# EAGLE library part L6470 (library everykey)
ST fully integrated stepper controller and driver, 128-microstepping, 3A max per phase, SPI
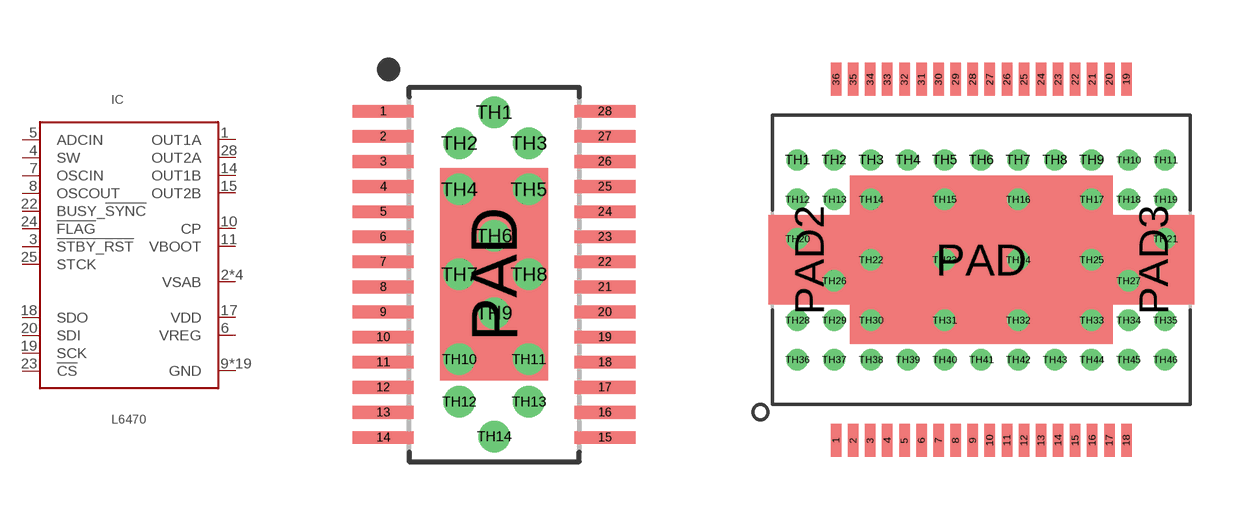
[diagram p50: symbol with the pads of HTSSOP28-0.65-EP-VIAS; footprints HTSSOP28-0.65-EP-VIAS, POWERSO36-EP-VIAS]

Designator prefix IC

## L6470HTSSOP  [HTSSOP28-0.65-EP-VIAS]
1  OUT1A
2  VSAB  pwr
3  !STBY_RST  in
4  SW  in
5  ADCIN  in
6  VREG  in
7  OSCIN  in
8  OSCOUT  out
9  GND  pwr
10  CP  out
11  VBOOT  pwr
12  VSAB  pwr
13  GND  pwr
14  OUT1B
15  OUT2B
16  VSAB  pwr
17  VDD  pwr
18  SDO  out
19  SCK  in
20  SDI  in
21  GND  pwr
22  BUSY_!SYNC  out
23  !CS  in
24  !FLAG  out
25  STCK  in
26  VSAB  pwr
27  GND  pwr
28  OUT2A
PAD  GND  pwr
TH1  GND  pwr
TH2  GND  pwr
TH3  GND  pwr
TH4  GND  pwr
TH5  GND  pwr
TH6  GND  pwr
TH7  GND  pwr
TH8  GND  pwr
TH9  GND  pwr
TH10  GND  pwr
TH11  GND  pwr
TH12  GND  pwr
TH13  GND  pwr
TH14  GND  pwr

## L6470POWERSO  [POWERSO36-EP-VIAS]
1  GND  pwr
2  OUT1A
3  OUT1A
4  VSAB  pwr
5  VSAB  pwr
6  !STBY_RST  in
7  SW  in
8  ADCIN  in
9  VREG  in
10  OSCIN  in
11  OSCOUT  out
12  GND  pwr
13  CP  out
14  VBOOT  pwr
15  VSAB  pwr
16  VSAB  pwr
17  OUT1B
18  OUT1B
19  GND  pwr
20  OUT2B
21  OUT2B
22  VSAB  pwr
23  VSAB  pwr
24  VDD  pwr
25  SDO  out
26  SCK  in
27  SDI  in
28  GND  pwr
29  BUSY_!SYNC  out
30  !CS  in
31  !FLAG  out
32  STCK  in
33  VSAB  pwr
34  VSAB  pwr
35  OUT2A
36  OUT2A
PAD  GND  pwr
PAD2  GND  pwr
PAD3  GND  pwr
TH1  GND  pwr
TH2  GND  pwr
TH3  GND  pwr
TH4  GND  pwr
TH5  GND  pwr
TH6  GND  pwr
TH7  GND  pwr
TH8  GND  pwr
TH9  GND  pwr
TH10  GND  pwr
TH11  GND  pwr
TH12  GND  pwr
TH13  GND  pwr
TH14  GND  pwr
TH15  GND  pwr
TH16  GND  pwr
TH17  GND  pwr
TH18  GND  pwr
TH19  GND  pwr
TH20  GND  pwr
TH21  GND  pwr
TH22  GND  pwr
TH23  GND  pwr
TH24  GND  pwr
TH25  GND  pwr
TH26  GND  pwr
TH27  GND  pwr
TH28  GND  pwr
TH29  GND  pwr
TH30  GND  pwr
TH31  GND  pwr
TH32  GND  pwr
TH33  GND  pwr
TH34  GND  pwr
TH35  GND  pwr
TH36  GND  pwr
TH37  GND  pwr
TH38  GND  pwr
TH39  GND  pwr
TH40  GND  pwr
TH41  GND  pwr
TH42  GND  pwr
TH43  GND  pwr
TH44  GND  pwr
TH45  GND  pwr
TH46  GND  pwr

## Footprint HTSSOP28-0.65-EP-VIAS (pad centres in mm)
HTSSOP28 package, 0.65mm pitch, with exposed pad (no thermals) and vias on pad. Recommended sizes, optimized for 12mil spacing (thick copper).
smd 1.58 x 0.33: 1 -2.87,4.225; 2 -2.87,3.575; 3 -2.87,2.925; 4 -2.87,2.275; 5 -2.87,1.625; 6 -2.87,0.975; 7 -2.87,0.325; 8 -2.87,-0.325; 9 -2.87,-0.975; 10 -2.87,-1.625; 11 -2.87,-2.275; 12 -2.87,-2.925; 13 -2.87,-3.575; 14 -2.87,-4.225; 15 2.87,-4.225; 16 2.87,-3.575; 17 2.87,-2.925; 18 2.87,-2.275; 19 2.87,-1.625; 20 2.87,-0.975; 21 2.87,-0.325; 22 2.87,0.325; 23 2.87,0.975; 24 2.87,1.625; 25 2.87,2.275; 26 2.87,2.925; 27 2.87,3.575; 28 2.87,4.225
smd 2.8 x 5.5: PAD 0,0
drill 0.305: TH1 0,4.2; TH2 -0.9,3.4; TH3 0.9,3.4; TH4 -0.9,2.2; TH5 0.9,2.2; TH6 0,1; TH7 -0.9,0; TH8 0.9,0; TH9 0,-1; TH10 -0.9,-2.2; TH11 0.9,-2.2; TH12 -0.9,-3.3; TH13 0.9,-3.3; TH14 0,-4.2

## Footprint POWERSO36-EP-VIAS (pad centres in mm)
STMicro POWERSO36 package with exposed pad
smd 0.4 x 1.25: 1 -5.525,-6.875; 2 -4.875,-6.875; 3 -4.225,-6.875; 4 -3.575,-6.875; 5 -2.925,-6.875; 6 -2.275,-6.875; 7 -1.625,-6.875; 8 -0.975,-6.875; 9 -0.325,-6.875; 10 0.325,-6.875; 11 0.975,-6.875; 12 1.625,-6.875; 13 2.275,-6.875; 14 2.925,-6.875; 15 3.575,-6.875; 16 4.225,-6.875; 17 4.875,-6.875; 18 5.525,-6.875; 19 5.525,6.875; 20 4.875,6.875; 21 4.225,6.875; 22 3.575,6.875; 23 2.925,6.875; 24 2.275,6.875; 25 1.625,6.875; 26 0.975,6.875; 27 0.325,6.875; 28 -0.325,6.875; 29 -0.975,6.875; 30 -1.625,6.875; 31 -2.275,6.875; 32 -2.925,6.875; 33 -3.575,6.875; 34 -4.225,6.875; 35 -4.875,6.875; 36 -5.525,6.875
smd 10 x 6.4: PAD 0,0
smd 3.1 x 3.4: PAD2 -6.55,0; PAD3 6.55,0
drill 0.305: TH1 -7,3.8; TH2 -5.6,3.8; TH3 -4.2,3.8; TH4 -2.8,3.8; TH5 -1.4,3.8; TH6 0,3.8; TH7 1.4,3.8; TH8 2.8,3.8; TH9 4.2,3.8; TH10 5.6,3.8; TH11 7,3.8; TH12 -7,2.3; TH13 -5.6,2.3; TH14 -4.2,2.3; TH15 -1.4,2.3; TH16 1.4,2.3; TH17 4.2,2.3; TH18 5.6,2.3; TH19 7,2.3; TH20 -7,0.8; TH21 7,0.8; TH22 -4.2,0; TH23 -1.4,0; TH24 1.4,0; TH25 4.2,0; TH26 -5.6,-0.8; TH27 5.6,-0.8; TH28 -7,-2.3; TH29 -5.6,-2.3; TH30 -4.2,-2.3; TH31 -1.4,-2.3; TH32 1.4,-2.3; TH33 4.2,-2.3; TH34 5.6,-2.3; TH35 7,-2.3; TH36 -7,-3.8; TH37 -5.6,-3.8; TH38 -4.2,-3.8; TH39 -2.8,-3.8; TH40 -1.4,-3.8; TH41 0,-3.8; TH42 1.4,-3.8; TH43 2.8,-3.8; TH44 4.2,-3.8; TH45 5.6,-3.8; TH46 7,-3.8